# Altium schematic symbol library MOSFET IPD320N20N3GATMA1.Schlib: 1 symbol
Pins are listed as number, name and electrical type; pins without a type are passive.

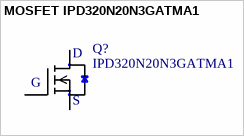
[diagram p0: symbol MOSFET IPD320N20N3GATMA1]

## MOSFET IPD320N20N3GATMA1
designator Q?, comment IPD320N20N3GATMA1
MOSFET N-CH 34A 200V DPAK
pins: D, G, S